# EAGLE library part BMI088 (library IGVC-IC)
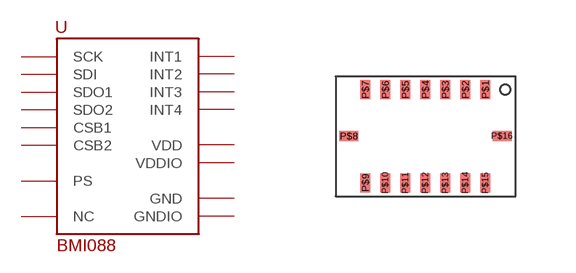
[diagram p1: symbol with the pads of BMI088; footprint BMI088]

Designator prefix U

## BMI088  [BMI088]
P$1  INT2
P$2  NC
P$3  VDD
P$4  GND
P$5  CSB2
P$6  GNDIO
P$7  PS
P$8  SCK
P$9  SDI
P$10  SDO2
P$11  VDDIO
P$12  INT3
P$13  INT4
P$14  CSB1
P$15  SDO1
P$16  INT1

## Footprint BMI088 (pad centres in mm)
smd 0.25 x 0.475: P$1 0,0; P$2 -0.5,0; P$3 -1,0; P$4 -1.5,0; P$5 -2,0; P$6 -2.5,0; P$7 -3,0; P$9 -3,-2.33; P$10 -2.5,-2.33; P$11 -2,-2.33; P$12 -1.5,-2.33; P$13 -1,-2.33; P$14 -0.5,-2.33; P$15 0,-2.33
smd 0.475 x 0.25: P$8 -3.415,-1.16; P$16 0.415,-1.16